# Altium integrated library Gennum Power Mgt SMPS Controller.IntLib: 1 symbol
Pins are listed as number, name and electrical type; pins without a type are passive.

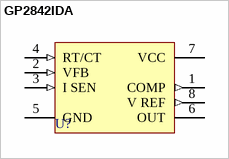
[diagram p0: symbol GP2842IDA]

## GP2842IDA
designator U?
Current Mode PWM Controller; Note: During undervoltage lockout,  the output driver is biased to a high impedance state.Pin 6 should be shunted to GND with a bleeder resistor.; Published: 8-Jun-2000; LatestRevisionDate: 17-Jul-2002; LatestRevisionNote: Re-released for DXP Platform.; PackageVersion: Nov-1999; PackageReference: PDIP8; Publisher: Altium Limited; PackageDescription: DIP; 8 Leads; Row Spacing 7.62 mm; Pitch 2.54 mm; ComponentLink1Description: Manufacturer Link; ComponentLink1URL: http://www.gennum.com/index.html
footprint PDIP8 (DIP; 8 Leads; Row Spacing 7.62 mm; Pitch 2.54 mm)
pins: 1 COMP (out), 2 VFB (in), 3 I SEN (in), 4 RT/CT (in), 5 GND (power), 6 OUT (hiz), 7 VCC (power), 8 V REF (out)